# EAGLE library part HDR_1X8 (library bleHAT)
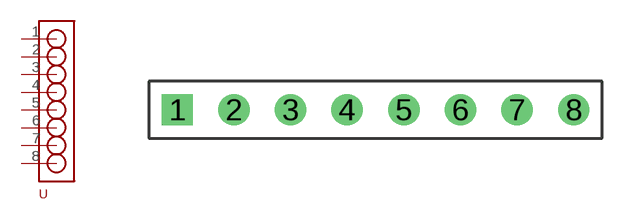
[diagram p6: symbol with the pads of HDR_1X8; footprint HDR_1X8]

Designator prefix -

## HDR_1X8  [HDR_1X8]
1  P$1
2  P$2
3  P$3
4  P$4
5  P$5
6  P$6
7  P$7
8  P$8

## Footprint HDR_1X8 (pad centres in mm)
drill 0.9 square: 1 -8.89,0
drill 0.9: 2 -6.35,0; 3 -3.81,0; 4 -1.27,0; 5 1.27,0; 6 3.81,0; 7 6.35,0; 8 8.89,0